# EAGLE library part RJ45 (library lib_stankus)
RJ45
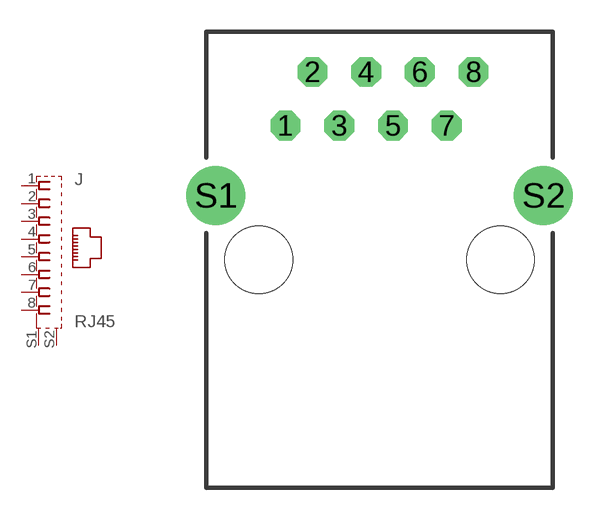
[diagram p9: symbol with the pads of RJ45; footprint RJ45]

Designator prefix J

## RJ45  [RJ45]
1  1  pas
2  2  pas
3  3  pas
4  4  pas
5  5  pas
6  6  pas
7  7  pas
8  8  pas
S1  S1  pas
S2  S2  pas

## Footprint RJ45 (pad centres in mm)
RJ45
drill 0.9 octagon: 1 -4.445,6.35; 2 -3.175,8.89; 3 -1.905,6.35; 4 -0.635,8.89; 5 0.635,6.35; 6 1.905,8.89; 7 3.175,6.35; 8 4.445,8.89
drill 1.6 pad 2.794 round: S1 -7.747,3.048; S2 7.747,3.048
hole 3.2 at -5.715,0
hole 3.2 at 5.715,0